# Altium schematic symbol library MOSFET1 N.Schlib: 1 symbol
Pins are listed as number, name and electrical type; pins without a type are passive.

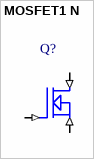
[diagram p0: symbol MOSFET1 N]

## MOSFET1 N
designator Q?
MOSFET, N-Channel
pins: 1 GATE (in), 2 SOURCE (in), 3 DRAIN (in)
1 alternate drawing of the same symbol